# Altium schematic symbol library BG030-03-A-0450-0300-N-G.SchLib: 1 symbol
Pins are listed as number, name and electrical type; pins without a type are passive.

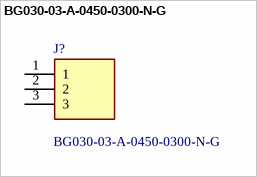
[diagram p0: symbol BG030-03-A-0450-0300-N-G]

## BG030-03-A-0450-0300-N-G
designator J?
Board to Board & Mezzanine Connectors 3w, 2.54mm Pitch Pin Hdr, SIL, TH, Vert, GF, Box; Manufacturer_Name: GCT (GLOBAL CONNECTOR TECHNOLOGY); Geometry.Height: 7.24mm; Mouser Part Number: 640-BG030-03A0453NG; Mouser Price/Stock: https://www.mouser.co.uk/ProductDetail/GCT/BG030-03-A-0450-0300-N-G?qs=iLbezkQI%252BshC%2Fei%2Fgzxysw%3D%3D; Manufacturer_Part_Number: BG030-03-A-0450-0300-N-G; Datasheet Link: https://gct.co/files/drawings/bg030.pdf
footprint HDRV3W64P0X254_1X3_762X250X724P
pins: 1, 2, 3